# Altium footprint library FLoRa0.0.PcbLib: 42 footprints (part 1 of 3)
Each footprint in its own frame and in the unit in brackets; x right, y up, seen from the top. Pads: shape width x height; smd on the part's side, far side on the other; paste and mask are expansions set on the pad; w line width, h text height; cw(c..) or ccw(c..) is an arc to the next point about the centre after c.
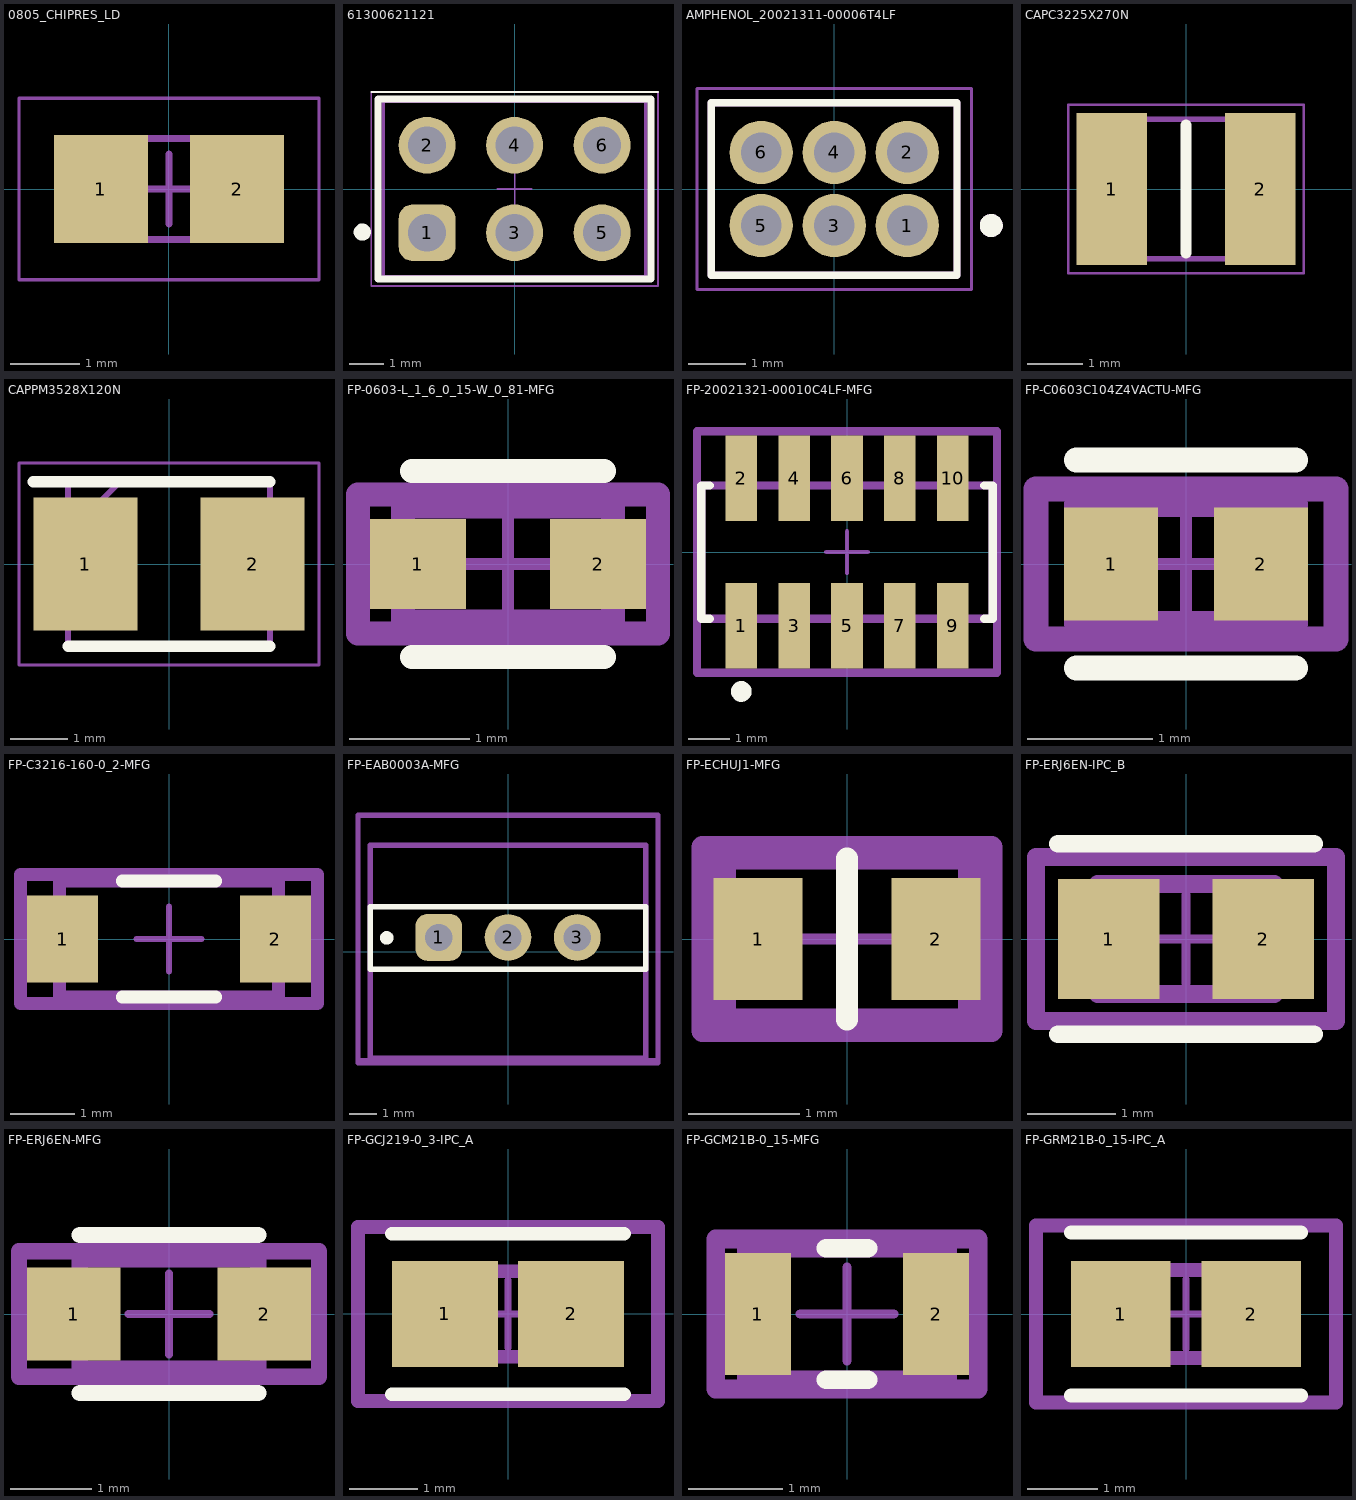
[diagram p0: the footprints below, top view; thin cyan lines are the x and y axes]

## 0805_CHIPRES_LD [mm] "0805 Chip RES - IPC Low Density"
height 0.7
pads (2):
  rect 1.35x1.55 smd: 1(-0.975,0) 2(0.975,0)
Top Assembly:
  lines w0.1: -1.1,-0.725 -1.1,0.725 1.1,0.725 1.1,-0.725 -1.1,-0.725
Top Courtyard:
  lines w0.05: -2.15,-1.3 -2.15,1.3 2.15,1.3 2.15,-1.3 -2.15,-1.3
  lines w0.1: -0.5,0 0.5,0 ; 0,-0.5 0,0.5
3D body: height 0.7, standoff 0, extent -0.7,-0.725 0.7,0.725
3D body: height 0.7, standoff 0, extent -1.1,-0.725 -0.7,0.725
3D body: height 0.7, standoff 0, extent 0.7,-0.725 1.1,0.725

## 61300621121 [mm] "Pin Header, pitch 2.54 mm, THT, Vertical, dual row, 6p"
height 8.54
pads (6):
  rrect50% 1.65x1.65 hole 1.1: 1(-2.54,-1.27)
  round 1.65 hole 1.1: 2(-2.54,1.27) 3(0,-1.27) 4(0,1.27) 5(2.54,-1.27) 6(2.54,1.27)
Top Overlay:
  circle w0.25: c-4.42,-1.25 r0.125
  lines w0.05: -4.16,2.815 4.16,2.815
  lines w0.2: -3.96,-2.615 3.96,-2.615 3.96,2.615 -3.96,2.615 -3.96,-2.615
Top Component Center:
  lines w0.05: -0.5,0 0.5,0 ; 0,-0.5 0,0.5
Top Component Outline:
  lines w0.1: -3.81,-2.54 3.81,-2.54 3.81,2.54 -3.81,2.54 -3.81,-2.54
Top Courtyard:
  lines w0.05: -4.16,2.815 -4.16,-2.815 4.16,-2.815 4.16,2.815
3D body "61300621121.stp": height 8.59, standoff -2.95, extent -3.81,-2.54 3.81,2.54

## AMPHENOL_20021311-00006T4LF [mm]
pads (6):
  round 1.1 hole 0.7: 1(1.27,-0.635) 2(1.27,0.635) 3(0,-0.635) 4(0,0.635) 5(-1.27,-0.635) 6(-1.27,0.635)
Top Overlay:
  circle w0.2: c2.73,-0.635 r0.1
  lines w0.127: -2.135,-1.5 2.135,-1.5 2.135,1.5 -2.135,1.5 -2.135,-1.5
Top Solder:
  pour cut-out: -2.159,1.524 -2.159,-1.524 2.159,-1.524 2.159,1.524
Top Assembly:
  circle w0.2: c2.73,-0.635 r0.1
  lines w0.127: -2.135,-1.5 2.135,-1.5 2.135,1.5 -2.135,1.5 -2.135,-1.5
Top Courtyard:
  lines w0.05: -2.385,-1.75 2.385,-1.75 2.385,1.75 -2.385,1.75 -2.385,-1.75
Multi-Layer:
  pour cut-out: -0.508,0.254 -0.254,0 -0.635,-0.381 -1.016,0 -0.762,0.254 -0.635,0.254 -0.762,0.254 -0.635,0.254
  pour cut-out: 0.254,0 0.635,0.381 1.016,0 0.635,-0.381

## CAPC3225X270N [mm]
pads (2):
  rect 1.26x2.72 smd: 1(-1.33,0) 2(1.33,0)
Top Overlay:
  lines w0.2: 0,-1.15 0,1.15
Top Courtyard:
  lines w0.1: -1.6,-1.25 -1.6,1.25 1.6,1.25 1.6,-1.25 -1.6,-1.25
Mechanical 20:
  lines w0.05: -2.11,-1.51 -2.11,1.51 2.11,1.51 2.11,-1.51 -2.11,-1.51

## CAPPM3528X120N [mm]
pads (2):
  rect 1.8x2.3 smd: 1(-1.45,0) 2(1.45,0)
Top Overlay:
  lines w0.2: -2.35,1.425 1.75,1.425 ; -1.75,-1.425 1.75,-1.425
Top Courtyard:
  lines w0.1: -1.75,0.525 -0.85,1.425 ; -1.75,-1.425 1.75,-1.425 1.75,1.425 -1.75,1.425 -1.75,-1.425
Mechanical 20:
  lines w0.05: -2.6,-1.75 2.6,-1.75 2.6,1.75 -2.6,1.75 -2.6,-1.75

## FP-0603-L_1_6_0_15-W_0_81-MFG [mm]
pads (2):
  rect 0.8x0.75 smd paste+0 mask+0: 1(-0.75,0) 2(0.75,0)
Top Overlay:
  lines w0.2: -0.8,-0.775 0.8,-0.775 ; -0.8,0.775 0.8,0.775
Top 3D Body:
  lines w0.2: -0.875,-0.48 -0.875,0.48 0.875,0.48 0.875,-0.48 -0.875,-0.48
Top Component Center:
  lines w0.1: -0.5,0 0.5,0 ; 0,-0.5 0,0.5
Top Assembly:
  lines w0.2: -1.25,-0.58 -1.25,0.58 1.25,0.58 1.25,-0.58 -1.25,-0.58
Top Courtyard:
  lines w0.2: -1.25,-0.58 -1.25,0.58 1.25,0.58 1.25,-0.58 -1.25,-0.58
3D body "Cap_AVX_0603YA0R5BAT2A_eec.STEP": height 0.25, standoff 0, extent -1.25,-0.58 1.25,0.58

## FP-20021321-00010C4LF-MFG [mm]
pads (10):
  rect 0.76x2.05 smd paste+0 mask+0: 1(-2.54,-1.775) 2(-2.54,1.775) 3(-1.27,-1.775) 4(-1.27,1.775) 5(0,-1.775) 6(0,1.775) 7(1.27,-1.775) 8(1.27,1.775) 9(2.54,-1.775) 10(2.54,1.775)
Top Overlay:
  circle w0.25: c-2.54,-3.35 r0.125
  lines w0.2: -3.295,-1.6 -3.505,-1.6 -3.505,1.6 -3.295,1.6 ; 3.295,-1.6 3.505,-1.6 3.505,1.6 3.295,1.6
Top 3D Body:
  lines w0.2: -3.505,-1.6 3.505,-1.6 3.505,1.6 -3.505,1.6 -3.505,-1.6
Top Component Center:
  lines w0.1: -0.5,0 0.5,0 ; 0,-0.5 0,0.5
Top Assembly:
  lines w0.2: -3.605,-2.9 3.605,-2.9 3.605,2.9 -3.605,2.9 -3.605,-2.9
Top Courtyard:
  lines w0.2: -3.605,-2.9 3.605,-2.9 3.605,2.9 -3.605,2.9 -3.605,-2.9
3D body "Conn_Amphenol_ICC_-_FCI_20021321-00010C4LF_eec.STEP": height 0.25, standoff 0, extent -3.605,-2.9 3.605,2.9

## FP-C0603C104Z4VACTU-MFG [mm]
pads (2):
  rect 0.75x0.9 smd paste+0 mask+0: 1(-0.6,0) 2(0.6,0)
Top Overlay:
  lines w0.2: -0.875,-0.83 0.875,-0.83 ; -0.875,0.83 0.875,0.83
Top 3D Body:
  lines w0.2: -0.875,-0.475 0.875,-0.475 0.875,0.475 -0.875,0.475 -0.875,-0.475
Top Component Center:
  lines w0.1: -0.5,0 0.5,0 ; 0,-0.5 0,0.5
Top Assembly:
  lines w0.2: -1.2,-0.6 1.2,-0.6 1.2,0.6 -1.2,0.6 -1.2,-0.6
  text ".Designator" at 0,0.191 h1.02
Top Courtyard:
  lines w0.2: -1.2,-0.6 1.2,-0.6 1.2,0.6 -1.2,0.6 -1.2,-0.6
3D body "Cap_Kemet_C0603C104Z4VACTU_eec.STEP": height 0.25, standoff 0, extent -1.2,-0.6 1.2,0.6

## FP-C3216-160-0_2-MFG [mm]
pads (2):
  rect 1.1x1.35 smd paste+0 mask+0: 1(-1.65,0) 2(1.65,0)
Top Overlay:
  lines w0.2: -0.725,-0.9 0.725,-0.9 ; -0.725,0.9 0.725,0.9
Top 3D Body:
  lines w0.2: -1.7,-0.9 1.7,-0.9 1.7,0.9 -1.7,0.9 -1.7,-0.9
Top Component Center:
  lines w0.1: -0.5,0 0.5,0 ; 0,-0.5 0,0.5
Top Assembly:
  lines w0.2: -2.3,-1 2.3,-1 2.3,1 -2.3,1 -2.3,-1
  text ".Designator" at 0,0.191 h1.02
Top Courtyard:
  lines w0.2: -2.3,-1 2.3,-1 2.3,1 -2.3,1 -2.3,-1
3D body "Cap_TDK_C3216X7R1C106M160AC_eec.STEP": height 0.25, standoff 0, extent -2.3,-1 2.3,1

## FP-EAB0003A-MFG [mm]
pads (3):
  rrect50% 1.71x1.71 hole 1 paste-2539.97 mask+0: 1(-2.54,0.525)
  round 1.71 hole 1 paste-2539.97 mask+0: 2(0,0.525) 3(2.54,0.525)
Top Overlay:
  circle w0.25: c-4.445,0.508 r0.125
  lines w0.2: -5.05,-0.635 5.05,-0.635 5.05,1.651 -5.05,1.651 -5.05,-0.635
Top 3D Body:
  lines w0.2: -5.05,-3.9 5.05,-3.9 5.05,3.9 -5.05,3.9 -5.05,-3.9
Top Component Center:
  lines w0.1: -0.5,0 0.5,0
Top Assembly:
  lines w0.2: -5.5,-4.064 5.5,-4.064 5.5,5 -5.5,5 -5.5,-4.064
Top Courtyard:
  lines w0.2: -5.5,-4 -5.5,5 5.5,5 5.5,-4 -5.5,-4
3D body "UNK_Texas_Instruments_TPSM84203EAB_eec.STEP": height 0.25, standoff 0, extent -5.5,-4 5.5,5

## FP-ECHUJ1-MFG [mm]
pads (2):
  rect 0.8x1.1 smd paste+0 mask+0: 1(-0.8,0) 2(0.8,0)
Top Overlay:
  lines w0.2: 0,-0.725 0,0.725
Top 3D Body:
  lines w0.2: -1.1,-0.725 -1.1,0.725 1.1,0.725 1.1,-0.725 -1.1,-0.725
Top Component Center:
  lines w0.1: -0.5,0 0.5,0 ; 0,-0.5 0,0.5
Top Assembly:
  lines w0.2: -1.3,-0.825 -1.3,0.825 1.3,0.825 1.3,-0.825 -1.3,-0.825
Top Courtyard:
  lines w0.2: -1.3,-0.825 -1.3,0.825 1.3,0.825 1.3,-0.825 -1.3,-0.825
3D body "Cap_Panasonic_Electronic_Components_ECH-U1H821JX5_eec.STEP": height 0.25, standoff 0, extent -1.3,-0.825 1.3,0.825

## FP-ERJ6EN-IPC_B [mm]
pads (2):
  rect 1.155x1.362 smd paste+0 mask+0: 1(-0.876,0) 2(0.876,0)
Top Overlay:
  lines w0.2: -1.453,-1.081 1.453,-1.081 ; -1.453,1.081 1.453,1.081
Top 3D Body:
  lines w0.2: -1,-0.625 1,-0.625 1,0.625 -1,0.625 -1,-0.625
Top Component Center:
  lines w0.1: -0.5,0 0.5,0 ; 0,-0.5 0,0.5
Top Assembly:
  lines w0.2: -1.703,-0.931 1.703,-0.931 1.703,0.931 -1.703,0.931 -1.703,-0.931
  text ".Designator" at 0,0.003 h1.02
Top Courtyard:
  lines w0.2: -1.703,-0.931 1.703,-0.931 1.703,0.931 -1.703,0.931 -1.703,-0.931

## FP-ERJ6EN-MFG [mm]
pads (2):
  rect 1.15x1.15 smd paste+0 mask+0: 1(-1.175,0) 2(1.175,0)
Top Overlay:
  lines w0.2: -1.1,-0.975 1.1,-0.975 ; -1.1,0.975 1.1,0.975
Top 3D Body:
  lines w0.2: -1.1,-0.675 1.1,-0.675 1.1,0.675 -1.1,0.675 -1.1,-0.675
Top Component Center:
  lines w0.1: -0.5,0 0.5,0 ; 0,-0.5 0,0.5
Top Assembly:
  lines w0.2: -1.85,-0.775 1.85,-0.775 1.85,0.775 -1.85,0.775 -1.85,-0.775
  text ".Designator" at 0,0.003 h1.02
Top Courtyard:
  lines w0.2: -1.85,-0.775 1.85,-0.775 1.85,0.775 -1.85,0.775 -1.85,-0.775
3D body "Res_Panasonic_ERJ-6ENF4751V_eec.STEP": height 0.25, standoff 0, extent -1.85,-0.775 1.85,0.775
3D body "Res_Panasonic_ERJ-6ENF4751V_eec.STEP": height 0.25, standoff 0, extent -1.85,-0.775 1.85,0.775
3D body "Res_Panasonic_ERJ-6ENF4751V_eec.STEP": height 0.25, standoff 0, extent -1.85,-0.775 1.85,0.775

## FP-GCJ219-0_3-IPC_A [mm]
pads (2):
  rect 1.553x1.556 smd paste+0 mask+0: 1(-0.925,0) 2(0.925,0)
Top Overlay:
  lines w0.2: -1.702,-1.178 1.702,-1.178 ; -1.702,1.178 1.702,1.178
Top 3D Body:
  lines w0.2: -1,-0.625 -1,0.625 1,0.625 1,-0.625 -1,-0.625
Top Component Center:
  lines w0.1: -0.5,0 0.5,0 ; 0,-0.5 0,0.5
Top Assembly:
  lines w0.2: -2.202,-1.278 -2.202,1.278 2.202,1.278 2.202,-1.278 -2.202,-1.278
  text ".Designator" at 0,0.188 h1
Top Courtyard:
  lines w0.2: -2.202,-1.278 -2.202,1.278 2.202,1.278 2.202,-1.278 -2.202,-1.278
3D body "Cap_Murata_GCJ219R71H334MA12D_eec.STEP": height 0.25, standoff 0, extent -2.202,-1.278 2.202,1.278

## FP-GCM21B-0_15-MFG [mm]
pads (2):
  rect 0.7x1.3 smd paste+0 mask+0: 1(-0.95,0) 2(0.95,0)
Top Overlay:
  lines w0.2: -0.225,-0.7 0.225,-0.7 ; -0.225,0.7 0.225,0.7
Top 3D Body:
  lines w0.2: -1.075,-0.7 -1.075,0.7 1.075,0.7 1.075,-0.7 -1.075,-0.7
Top Component Center:
  lines w0.1: -0.5,0 0.5,0 ; 0,-0.5 0,0.5
Top Assembly:
  lines w0.2: -1.4,-0.8 -1.4,0.8 1.4,0.8 1.4,-0.8 -1.4,-0.8
  text ".Designator" at 0,0.191 h1.02
Top Courtyard:
  lines w0.2: -1.4,-0.8 -1.4,0.8 1.4,0.8 1.4,-0.8 -1.4,-0.8
3D body "Cap_Murata_GCM21BR72A104KA37L_eec.STEP": height 0.25, standoff 0, extent -1.4,-0.8 1.4,0.8

## FP-GRM21B-0_15-IPC_A [mm]
pads (2):
  rect 1.406x1.508 smd paste+0 mask+0: 1(-0.926,0) 2(0.926,0)
Top Overlay:
  lines w0.2: -1.629,-1.154 1.629,-1.154 ; -1.629,1.154 1.629,1.154
Top 3D Body:
  lines w0.2: -1,-0.625 1,-0.625 1,0.625 -1,0.625 -1,-0.625
Top Component Center:
  lines w0.1: -0.5,0 0.5,0 ; 0,-0.5 0,0.5
Top Assembly:
  lines w0.2: -2.129,-1.254 2.129,-1.254 2.129,1.254 -2.129,1.254 -2.129,-1.254
  text ".Designator" at 0,0.191 h1.02
Top Courtyard:
  lines w0.2: -2.129,-1.254 2.129,-1.254 2.129,1.254 -2.129,1.254 -2.129,-1.254
3D body "Cap_Murata_GRM21BC81C106KA73L_eec.STEP": height 0.25, standoff 0, extent -2.129,-1.254 2.129,1.254